# EAGLE library part TPS2560A (library My_TI)
TPS2560A Dual Channel Precision Adjustable Current-Limited Power Switches. • Two separate current limiting channels • Adjustable Current Limit, 250 mA–2.8 A (typ) • Operating Range: 2.5 V to 6.5 V Datasheet <http://www.ti.com/lit/ds/symlink/tps2561a.pdf>
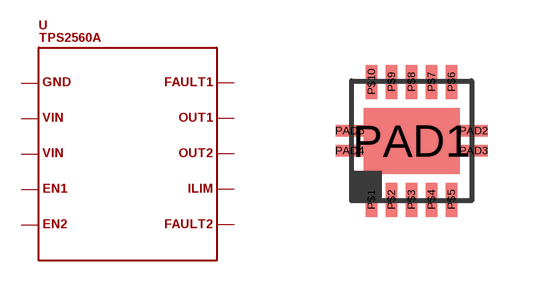
[diagram p57: symbol with the pads of PVSON10; footprint PVSON10]

Designator prefix -

## TPS2560A  [PVSON10]
P$1  P$1
P$2  P$2
P$3  P$3
P$4  P$4
P$5  P$5
P$6  P$6
P$7  P$7
P$8  P$8
P$9  P$9
P$10  P$10
PAD1  P$1
PAD2  P$1
PAD3  P$1
PAD4  P$1
PAD5  P$1

## Footprint PVSON10 (pad centres in mm)
smd 0.28 x 0.85: P$1 -1,-1.475; P$2 -0.5,-1.475; P$3 0,-1.475; P$4 0.5,-1.475; P$5 1,-1.475; P$6 1,1.475; P$7 0.5,1.475; P$8 0,1.475; P$9 -0.5,1.475; P$10 -1,1.475
smd 2.4 x 1.65: PAD1 0,0
smd 0.7 x 0.28: PAD2 1.55,0.25; PAD3 1.55,-0.25; PAD4 -1.55,-0.25; PAD5 -1.55,0.25